# EAGLE library part TPS7A8701RTJR (library TPS7A8701RTJR)
Dual 500mA Low-Noise (3.8-uVRMS) LDO Voltage Regulator Source: Datasheet <http://www.ti.com/lit/gpn/tps7a87>
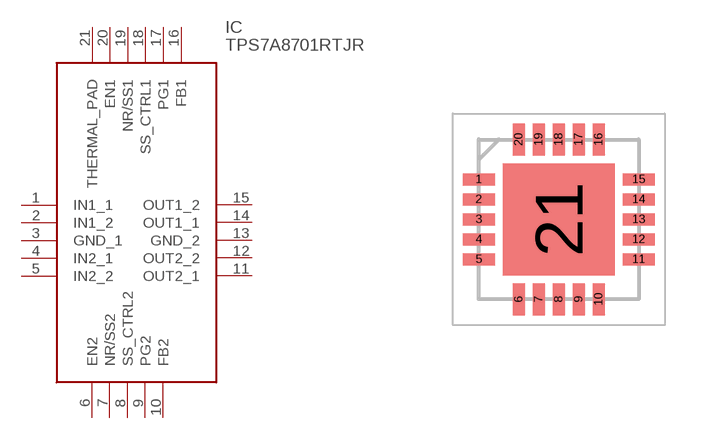
[diagram p0: symbol with the pads of QFN50P400X400X80-21N; footprint QFN50P400X400X80-21N]

Designator prefix IC

## TPS7A8701RTJR (Description: Dual 500mA Low-Noise (3.8-uVRMS) LDO Voltage Regulator; Height: 0.8mm; Manufacturer_Name: Texas Instruments; Manufacturer_Part_Number: TPS7A8701RTJR; Mouser_Part_Number: 595-TPS7A8701RTJR; Mouser_Price-Stock: https://www.mouser.com/Search/Refine.aspx?Keyword=595-TPS7A8701RTJR)  [QFN50P400X400X80-21N]
1  IN1_1
2  IN1_2
3  GND_1
4  IN2_1
5  IN2_2
6  EN2
7  NR/SS2
8  SS_CTRL2
9  PG2
10  FB2
11  OUT2_1
12  OUT2_2
13  GND_2
14  OUT1_1
15  OUT1_2
16  FB1
17  PG1
18  SS_CTRL1
19  NR/SS1
20  EN1
21  THERMAL_PAD

## Footprint QFN50P400X400X80-21N (pad centres in mm)
RTJ (S-PWQFN-N20)_2
smd 0.8 x 0.3: 1 -2,1; 2 -2,0.5; 3 -2,0; 4 -2,-0.5; 5 -2,-1; 11 2,-1; 12 2,-0.5; 13 2,0; 14 2,0.5; 15 2,1
smd 0.3 x 0.8: 6 -1,-2; 7 -0.5,-2; 8 0,-2; 9 0.5,-2; 10 1,-2; 16 1,2; 17 0.5,2; 18 0,2; 19 -0.5,2; 20 -1,2
smd 2.8 x 2.8: 21 0,0